# Altium footprint library CM7V-T1A-32.768KHZ.PcbLib: 1 footprints
Each footprint in its own frame and in the unit in brackets; x right, y up, seen from the top. Pads: shape width x height; smd on the part's side, far side on the other; paste and mask are expansions set on the pad; w line width, h text height; cw(c..) or ccw(c..) is an arc to the next point about the centre after c.
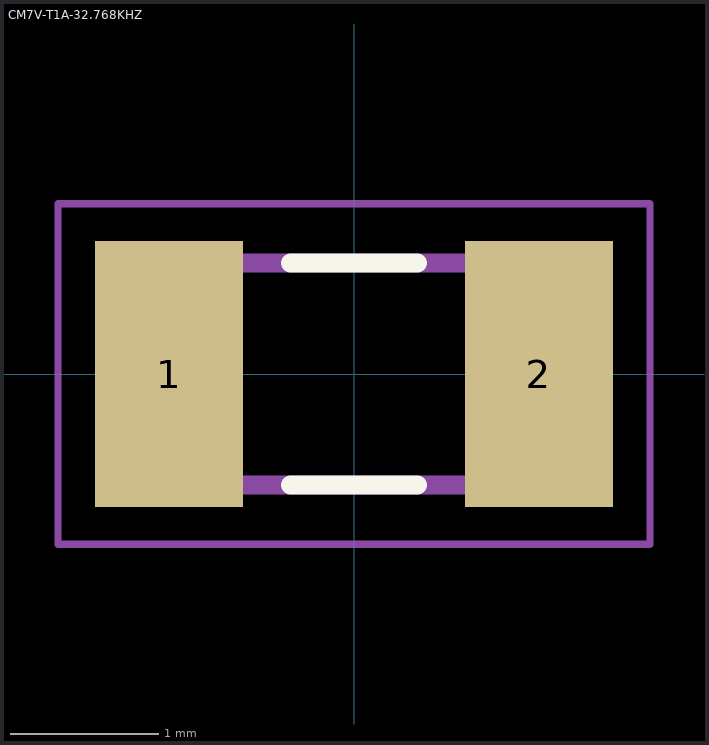
[diagram p0: the footprint, top view; thin cyan lines are the x and y axes]

## CM7V-T1A-32.768KHZ [mm]
height 0.65
pads (2):
  rect 1x1.8 smd: 1(-1.25,0) 2(1.25,0)
Top Overlay:
  lines w0.127: -0.43,-0.75 0.43,-0.75 ; -0.43,0.75 0.43,0.75
Mechanical 13:
  lines w0.127: -1.6,-0.75 1.6,-0.75 1.6,0.75 -1.6,0.75 -1.6,-0.75
Mechanical 15:
  lines w0.05: -2,-1.15 2,-1.15 2,1.15 -2,1.15 -2,-1.15
3D body "step_temp.STEP": height 0.65, standoff 0, extent -1.6,-0.75 1.6,0.75